# Altium schematic symbol library AT25SF128A-SHB-T.Schlib: 1 symbol
Pins are listed as number, name and electrical type; pins without a type are passive.

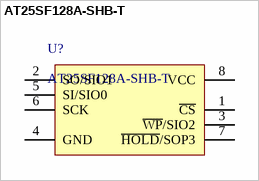
[diagram p0: symbol AT25SF128A-SHB-T]

## AT25SF128A-SHB-T
designator U?
FLASH - NOR Memory IC 128Mb (16M x 8) SPI - Quad I/O 133 MHz 8-SOIC
pins: 1 ~{CS}, 2 SO/SIO1, 3 ~{WP}/SIO2, 4 GND, 5 SI/SIO0, 6 SCK, 7 ~{HOLD}/SOP3, 8 VCC